# Altium schematic symbol library Led RGB.Schlib: 1 symbol
Pins are listed as number, name and electrical type; pins without a type are passive.

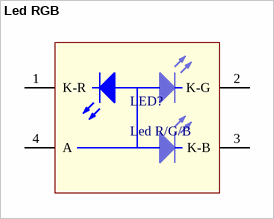
[diagram p0: symbol Led RGB]

## Led RGB
designator LED?, comment Led R/G/B
Full-Colour LED
pins: 1 K-R, 2 K-G, 3 K-B, 4 A